# Altium footprint library 芯片封装.PcbLib: 60 footprints (part 4 of 4)
Each footprint in its own frame and in the unit in brackets; x right, y up, seen from the top. Pads: shape width x height; smd on the part's side, far side on the other; paste and mask are expansions set on the pad; w line width, h text height; cw(c..) or ccw(c..) is an arc to the next point about the centre after c.
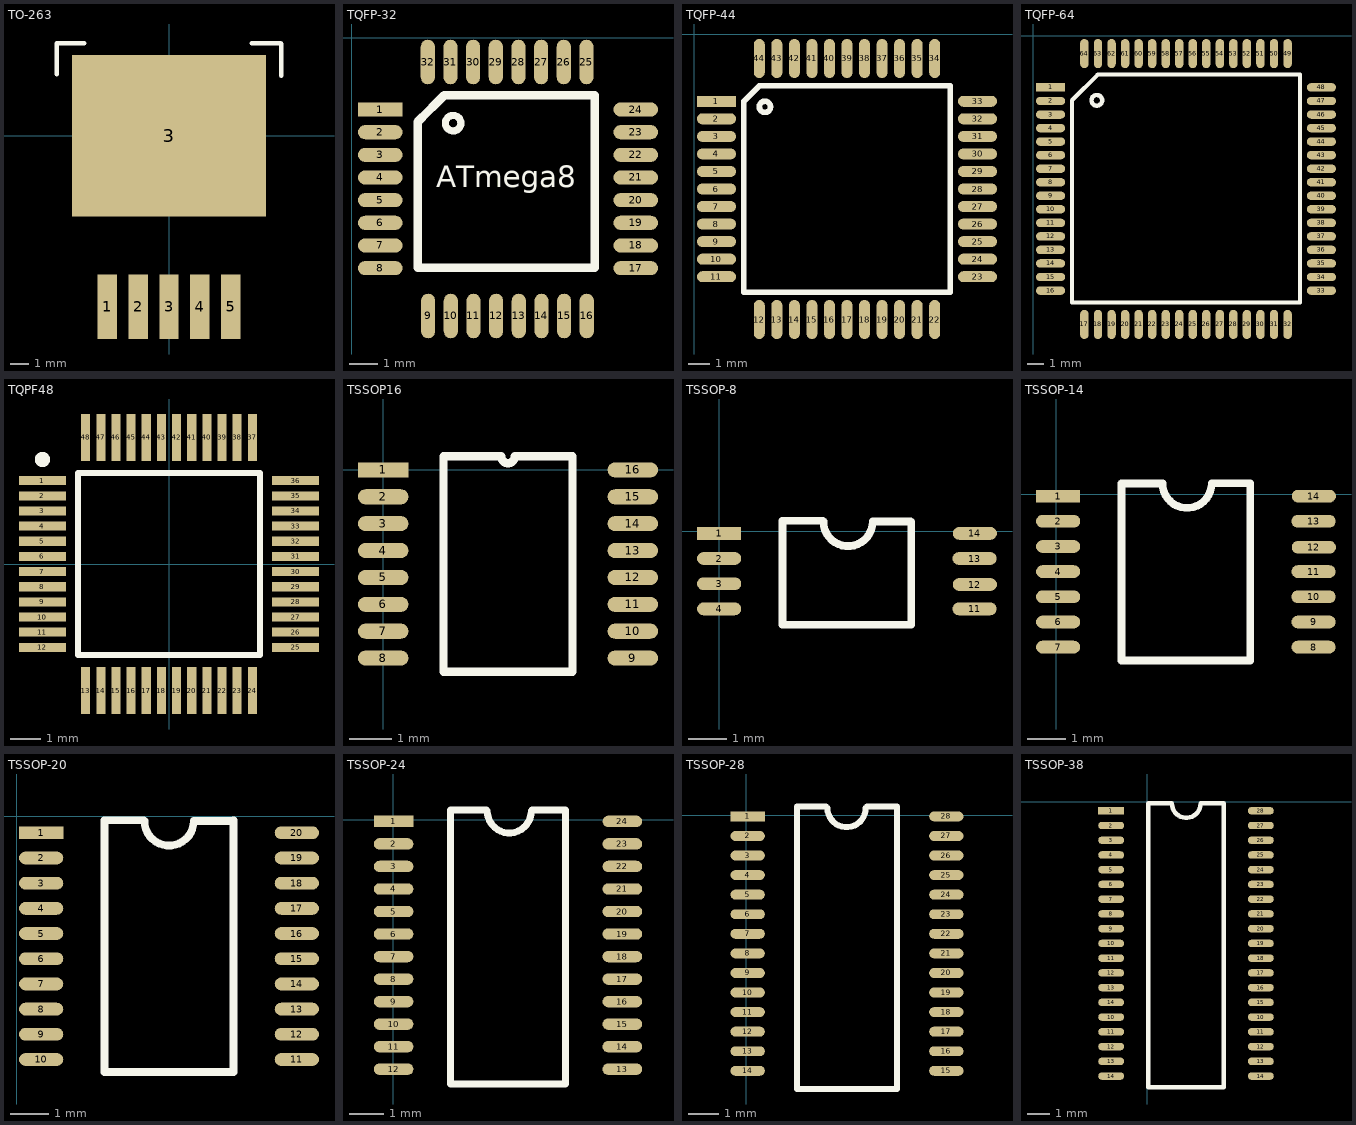
[diagram p3: the footprints below, top view; thin cyan lines are the x and y axes]

## TO-263 [mil]
pads (6):
  rect 42x140 smd: 1(-134,-370) 2(-67,-370) 3(0,-370) 4(67,-370) 5(134,-370)
  rect 420x350 smd: 3(0,0)
Top Overlay:
  lines w10: -243,134 -243,201 -184,201 ; 179,201 242,201 243,200 243,130

## TQFP-32 [mil]
pads (32):
  rect 62x19.68 smd: 1(40,-100)
  oval 62x19.68 smd: 2(40,-131.5) 3(40,-162.99) 4(40,-194.49) 5(40,-225.98) 6(40,-257.48) 7(40,-288.98) 8(40,-320.47) 17(395,-320.47) 18(395,-288.98) 19(395,-257.48) 20(395,-225.98) 21(395,-194.49) 22(395,-162.99) 23(395,-131.5) 24(395,-100)
  oval 19.68x62 smd: 9(106.51,-387) 10(138.01,-387) 11(169.5,-387) 12(201,-387) 13(232.5,-387) 14(263.99,-387) 15(295.49,-387) 16(326.98,-387) 25(326.52,-33.95) 26(295.02,-33.95) 27(263.53,-33.95) 28(232.03,-33.95) 29(200.53,-33.95) 30(169.04,-33.95) 31(137.54,-33.95) 32(106.05,-33.95)
Top Overlay:
  circle w10: c141.23,-119 r10.77
  lines w12: 93,-116 129,-80 338,-80 338,-320 92,-320 92,-117 98.99,-110.01
  text "ATmega8" at 118,-208 h30

## TQFP-44 [mil]
pads (44):
  rect 70x19.68 smd: 1(40,-120)
  oval 70x19.68 smd: 2(40,-151.5) 3(40,-182.99) 4(40,-214.49) 5(40,-245.98) 6(40,-277.48) 7(40,-308.98) 8(40,-340.47) 9(40,-371.97) 10(40,-403.46) 11(40,-434.96) 23(508.5,-434.96) 24(508.5,-403.46) 25(508.5,-371.97) 26(508.5,-340.47) 27(508.5,-308.98) 28(508.5,-277.48) 29(508.5,-245.98) 30(508.5,-214.49) 31(508.5,-182.99) 32(508.5,-151.5) 33(508.5,-120)
  oval 19.68x70 smd: 12(116.77,-511.73) 13(148.27,-511.73) 14(179.76,-511.73) 15(211.26,-511.73) 16(242.76,-511.73) 17(274.25,-511.73) 18(305.75,-511.73) 19(337.24,-511.73) 20(368.74,-511.73) 21(400.24,-511.73) 22(431.73,-511.73) 34(431.73,-43.23) 35(400.24,-43.23) 36(368.74,-43.23) 37(337.24,-43.23) 38(305.75,-43.23) 39(274.25,-43.23) 40(242.76,-43.23) 41(211.26,-43.23) 42(179.76,-43.23) 43(148.27,-43.23) 44(116.77,-43.23)
Top Overlay:
  circle w10: c126.95,-130 r10.05
  lines w9.84: 89.21,-462.52 459.29,-462.52 459.29,-92.44
  lines w10: 89.21,-462.52 89.21,-120 116.77,-92.44 459.29,-92.44

## TQFP-64 [mm]
pads (64):
  rect 1.724x0.5 smd: 1(1.016,-3.044)
  oval 1.724x0.5 smd: 2(1.016,-3.844) 3(1.016,-4.644) 4(1.016,-5.444) 5(1.016,-6.244) 6(1.016,-7.044) 7(1.016,-7.844) 8(1.016,-8.644) 9(1.016,-9.444) 10(1.016,-10.244) 11(1.016,-11.044) 12(1.016,-11.844) 13(1.016,-12.644) 14(1.016,-13.444) 15(1.016,-14.244) 16(1.016,-15.044) 33(17.016,-15.044) 34(17.016,-14.244) 35(17.016,-13.444) 36(17.016,-12.644) 37(17.016,-11.844) 38(17.016,-11.044) 39(17.016,-10.244) 40(17.016,-9.444) 41(17.016,-8.644) 42(17.016,-7.844) 43(17.016,-7.044) 44(17.016,-6.244) 45(17.016,-5.444) 46(17.016,-4.644) 47(17.016,-3.844) 48(17.016,-3.044)
  oval 0.5x1.724 smd: 17(3.016,-17.044) 18(3.816,-17.044) 19(4.616,-17.044) 20(5.416,-17.044) 21(6.216,-17.044) 22(7.016,-17.044) 23(7.816,-17.044) 24(8.616,-17.044) 25(9.416,-17.044) 26(10.216,-17.044) 27(11.016,-17.044) 28(11.816,-17.044) 29(12.616,-17.044) 30(13.416,-17.044) 31(14.216,-17.044) 32(15.016,-17.044) 49(15.016,-1.044) 50(14.216,-1.044) 51(13.416,-1.044) 52(12.616,-1.044) 53(11.816,-1.044) 54(11.016,-1.044) 55(10.216,-1.044) 56(9.416,-1.044) 57(8.616,-1.044) 58(7.816,-1.044) 59(7.016,-1.044) 60(6.216,-1.044) 61(5.416,-1.044) 62(4.616,-1.044) 63(3.816,-1.044) 64(3.016,-1.044)
Top Overlay:
  circle w0.254: c3.748,-3.806 r0.316
  lines w0.254: 2.286,-15.744 15.748,-15.744 15.748,-2.282 3.81,-2.282 2.286,-3.806 2.286,-15.744

## TQPF48 [mm] "F-QFP7x7-G48/N"
pads (48):
  rect 1.55x0.3 smd: 1(-4.177,2.756) 2(-4.177,2.256) 3(-4.177,1.756) 4(-4.177,1.256) 5(-4.177,0.756) 6(-4.177,0.256) 7(-4.177,-0.244) 8(-4.177,-0.744) 9(-4.177,-1.244) 10(-4.177,-1.744) 11(-4.177,-2.244) 12(-4.177,-2.744) 25(4.173,-2.744) 26(4.173,-2.244) 27(4.173,-1.744) 28(4.173,-1.244) 29(4.173,-0.744) 30(4.173,-0.244) 31(4.173,0.256) 32(4.173,0.756) 33(4.173,1.256) 34(4.173,1.756) 35(4.173,2.256) 36(4.173,2.756)
  rect 0.3x1.55 smd: 13(-2.752,-4.169) 14(-2.252,-4.169) 15(-1.752,-4.169) 16(-1.252,-4.169) 17(-0.752,-4.169) 18(-0.252,-4.169) 19(0.248,-4.169) 20(0.748,-4.169) 21(1.248,-4.169) 22(1.748,-4.169) 23(2.248,-4.169) 24(2.748,-4.169) 37(2.748,4.181) 38(2.248,4.181) 39(1.748,4.181) 40(1.248,4.181) 41(0.748,4.181) 42(0.248,4.181) 43(-0.252,4.181) 44(-0.752,4.181) 45(-1.252,4.181) 46(-1.752,4.181) 47(-2.252,4.181) 48(-2.752,4.181)
Top Overlay:
  circle w0.25: c-4.177,3.456 r0.125
  lines w0.2: -3.002,-2.994 2.998,-2.994 2.998,3.006 -3.002,3.006 -3.002,-2.994

## TSSOP16 [mm]
pads (16):
  rect 1.2x0.36 smd: 1(0,0)
  oval 1.2x0.36 smd: 2(0,-0.64) 3(0,-1.28) 4(0,-1.92) 5(0,-2.56) 6(0,-3.2) 7(0,-3.84) 8(0,-4.48) 9(5.94,-4.48) 10(5.94,-3.84) 11(5.94,-3.2) 12(5.94,-2.56) 13(5.94,-1.92) 14(5.94,-1.28) 15(5.94,-0.64) 16(5.94,0)
Top Overlay:
  lines w0.2: 1.435,-4.8 4.505,-4.8 4.505,0.32 3.13,0.32 cw(c2.97,0.32) 2.81,0.32 1.435,0.32 1.435,-4.8

## TSSOP-8 [mil]
pads (8):
  rect 45x12.99 smd: 1(-0.16,-2)
  oval 45x12.99 smd: 2(-0.16,-27.59) 3(-0.16,-53.18) 4(-0.16,-78.77) 11(259.69,-78.77) 12(260,-54) 13(259.69,-27.59) 14(260,-2)
Top Overlay:
  lines w7.87: 105.2,10.79 64.21,10.79 64.21,-94.88 195.31,-94.88 195.31,9.84 ; 106,10 ccw(c131,10) 156,10 194.52,10

## TSSOP-14 [mil]
pads (14):
  rect 45x12.99 smd: 1(1.84,-2)
  oval 45x12.99 smd: 2(1.84,-27.59) 3(1.84,-53.18) 4(1.84,-78.77) 5(1.84,-104.36) 6(1.84,-129.95) 7(1.84,-155.54) 8(261.69,-155.54) 9(261.69,-129.95) 10(261.69,-104.36) 11(261.69,-78.77) 12(262,-54) 13(261.69,-27.59) 14(262,-2)
Top Overlay:
  lines w7.87: 107.64,10.79 66.21,10.79 66.21,-169.29 197.31,-169.29 197.31,10.79 ; 108,11 ccw(c133,11) 158,11 197.11,11

## TSSOP-20 [mm]
pads (20):
  rect 1.143x0.33 smd: 1(0.635,-0.432)
  oval 1.143x0.33 smd: 2(0.635,-1.082) 3(0.635,-1.732) 4(0.635,-2.382) 5(0.635,-3.032) 6(0.635,-3.682) 7(0.635,-4.332) 8(0.635,-4.982) 9(0.635,-5.632) 10(0.635,-6.282) 11(7.235,-6.282) 12(7.235,-5.632) 13(7.235,-4.982) 14(7.235,-4.332) 15(7.235,-3.682) 16(7.235,-3.032) 17(7.235,-2.382) 18(7.235,-1.732) 19(7.235,-1.082) 20(7.235,-0.432)
Top Overlay:
  lines w0.2: 3.282,-0.107 2.27,-0.107 2.27,-6.607 5.6,-6.607 5.6,-0.107 ; 3.302,-0.127 ccw(c3.937,-0.127) 4.572,-0.127 5.58,-0.127

## TSSOP-24 [mil]
pads (24):
  rect 45x12.99 smd: 1(0.63,-1.79)
  oval 45x12.99 smd: 2(0.63,-27.39) 3(0.63,-52.98) 4(0.63,-78.57) 5(0.63,-104.16) 6(0.63,-129.75) 7(0.63,-155.34) 8(0.63,-180.93) 9(0.63,-206.52) 10(0.63,-232.11) 11(0.63,-257.7) 12(0.63,-283.29) 13(260.47,-283.29) 14(260.47,-257.7) 15(260.47,-232.11) 16(260.47,-206.52) 17(260.47,-180.93) 18(260.47,-155.34) 19(260.47,-129.75) 20(260.47,-104.16) 21(260.47,-78.57) 22(260.47,-52.98) 23(260.47,-27.39) 24(260.47,-1.79)
Top Overlay:
  lines w7.87: 106,11 65,11 65,-300 196.1,-300 196.1,11 158,11 ; 107,10 ccw(c132,10) 157,10

## TSSOP-28 [mil]
pads (28):
  rect 45x12.99 smd: 1(1.63,-1.79)
  oval 45x12.99 smd: 2(1.63,-27.39) 3(1.63,-52.98) 4(1.63,-78.57) 5(1.63,-104.16) 6(1.63,-129.75) 7(1.63,-155.34) 8(1.63,-180.93) 9(1.63,-206.52) 10(1.63,-232.11) 11(1.63,-257.7) 12(1.63,-283.29) 13(1.63,-308.88) 14(1.63,-334.47) 15(261.47,-334.47) 16(261.47,-308.88) 17(261.47,-283.29) 18(261.47,-257.7) 19(261.47,-232.11) 20(261.47,-206.52) 21(261.47,-180.93) 22(261.47,-155.34) 23(261.47,-129.75) 24(261.47,-104.16) 25(261.47,-78.57) 26(261.47,-52.98) 27(261.47,-27.39) 28(261.47,-1.79)
Top Overlay:
  lines w7.87: 104,11 66,11 66,-358.27 197.1,-358.27 197.1,11 158,11 ; 106,9 ccw(c131,9) 156,9

## TSSOP-38 [mil]
pads (38):
  rect 45x12.99 smd: 1(-62.37,-15.79)
  oval 45x12.99 smd: 2(-62.37,-41.39) 3(-62.37,-66.98) 4(-62.37,-92.57) 5(-62.37,-118.16) 6(-62.37,-143.75) 7(-62.37,-169.34) 8(-62.37,-194.93) 9(-62.37,-220.52) 10(-62.37,-374.06) 10(-62.37,-246.11) 10(197.47,-374.06) 11(-62.37,-399.65) 11(-62.37,-271.7) 11(197.47,-399.65) 12(-62.37,-425.24) 12(-62.37,-297.29) 12(197.47,-425.24) 13(-62.37,-450.83) 13(-62.37,-322.88) 13(197.47,-450.83) 14(-62.37,-476.43) 14(-62.37,-348.47) 14(197.47,-476.43) 15(197.47,-348.47) 16(197.47,-322.88) 17(197.47,-297.29) 18(197.47,-271.7) 19(197.47,-246.11) 20(197.47,-220.52) 21(197.47,-194.93) 22(197.47,-169.34) 23(197.47,-143.75) 24(197.47,-118.16) 25(197.47,-92.57) 26(197.47,-66.98) 27(197.47,-41.39) 28(197.47,-15.79)
Top Overlay:
  lines w7.87: 2,-496.06 2,-3 43,-3 ccw(c68,-3) 93,-3 133.1,-3 133.1,-496.06 2,-496.06